# EAGLE library part ISO308 (library isystems)
ISOLATED 5-V FULL AND HALF-DUPLEX RS-485 TRANSCEIVERS Features 4000-VPEAK Isolation, 560-Vpeak VIORM UL 1577, IEC 60747-5-2 (VDE 0884, Rev. 2), IEC 61010-1, IEC 60950-1 and CSA Approved Bus-Pin ESD Protection 12 kV HBM Between Bus Pins and GND2 6 kV HBM Between Bus Pins and GND1 1/8 Unit Load – Up to 256 Nodes on a Bus Meets or Exceeds TIA/EIA RS-485 Requirements Signaling Rates up to 20 Mbps Thermal Shutdown Protection Low Bus Capacitance – 16 pF (Typ) 50 kV/μs Typical Transient Immunity Fail-safe Receiver for Bus Open, Short, Idle 3.3-V Inputs are 5-V Tolerant Applications Security Systems Chemical Production Factory Automation Motor/Motion Control HVAC and Building Automation Networks Networked Security Stations
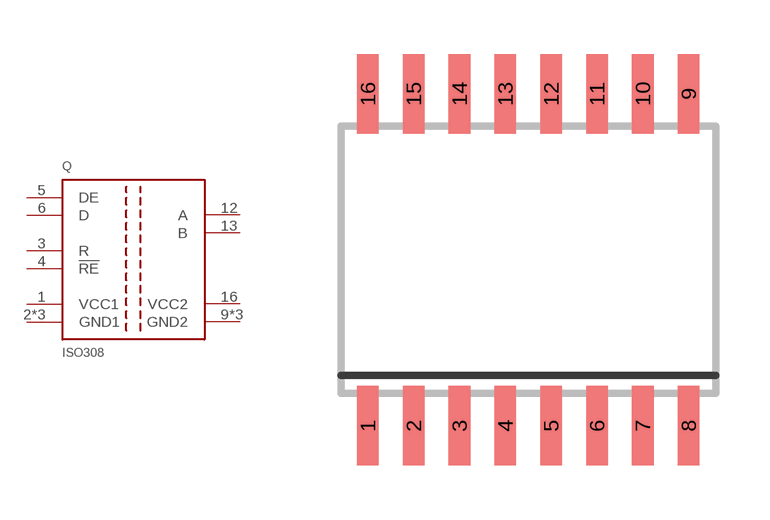
[diagram p41: symbol with the pads of SO-16DW; footprint SO-16DW]

Designator prefix Q

## ISO3082  [SO-16DW]
1  VCC1  pwr
2  GND1  pwr
3  R
4  !RE
5  DE
6  D
7  GND1  pwr
8  GND1  pwr
9  GND2  pwr
10  GND2  pwr
12  A
13  B
15  GND2  pwr
16  VCC2  pwr

## ISO3088  [SO-16DW]
Pads as for SO-16DW

## Footprint SO-16DW (pad centres in mm)
DW (RPDSO-G16) Source: http://focus.ti.com/lit/ds/symlink/iso1176.pdf
smd 0.6 x 2.2: 1 -4.445,-4.6; 2 -3.175,-4.6; 3 -1.905,-4.6; 4 -0.635,-4.6; 5 0.635,-4.6; 6 1.905,-4.6; 7 3.175,-4.6; 8 4.445,-4.6; 9 4.445,4.6; 10 3.175,4.6; 11 1.905,4.6; 12 0.635,4.6; 13 -0.635,4.6; 14 -1.905,4.6; 15 -3.175,4.6; 16 -4.445,4.6